# Altium footprint library WR-TBL_Pluggable Connector_5.00mm.PcbLib: 148 footprints (part 8 of 10)
Each footprint in its own frame and in the unit in brackets; x right, y up, seen from the top. Pads: shape width x height; smd on the part's side, far side on the other; paste and mask are expansions set on the pad; w line width, h text height; cw(c..) or ccw(c..) is an arc to the next point about the centre after c.
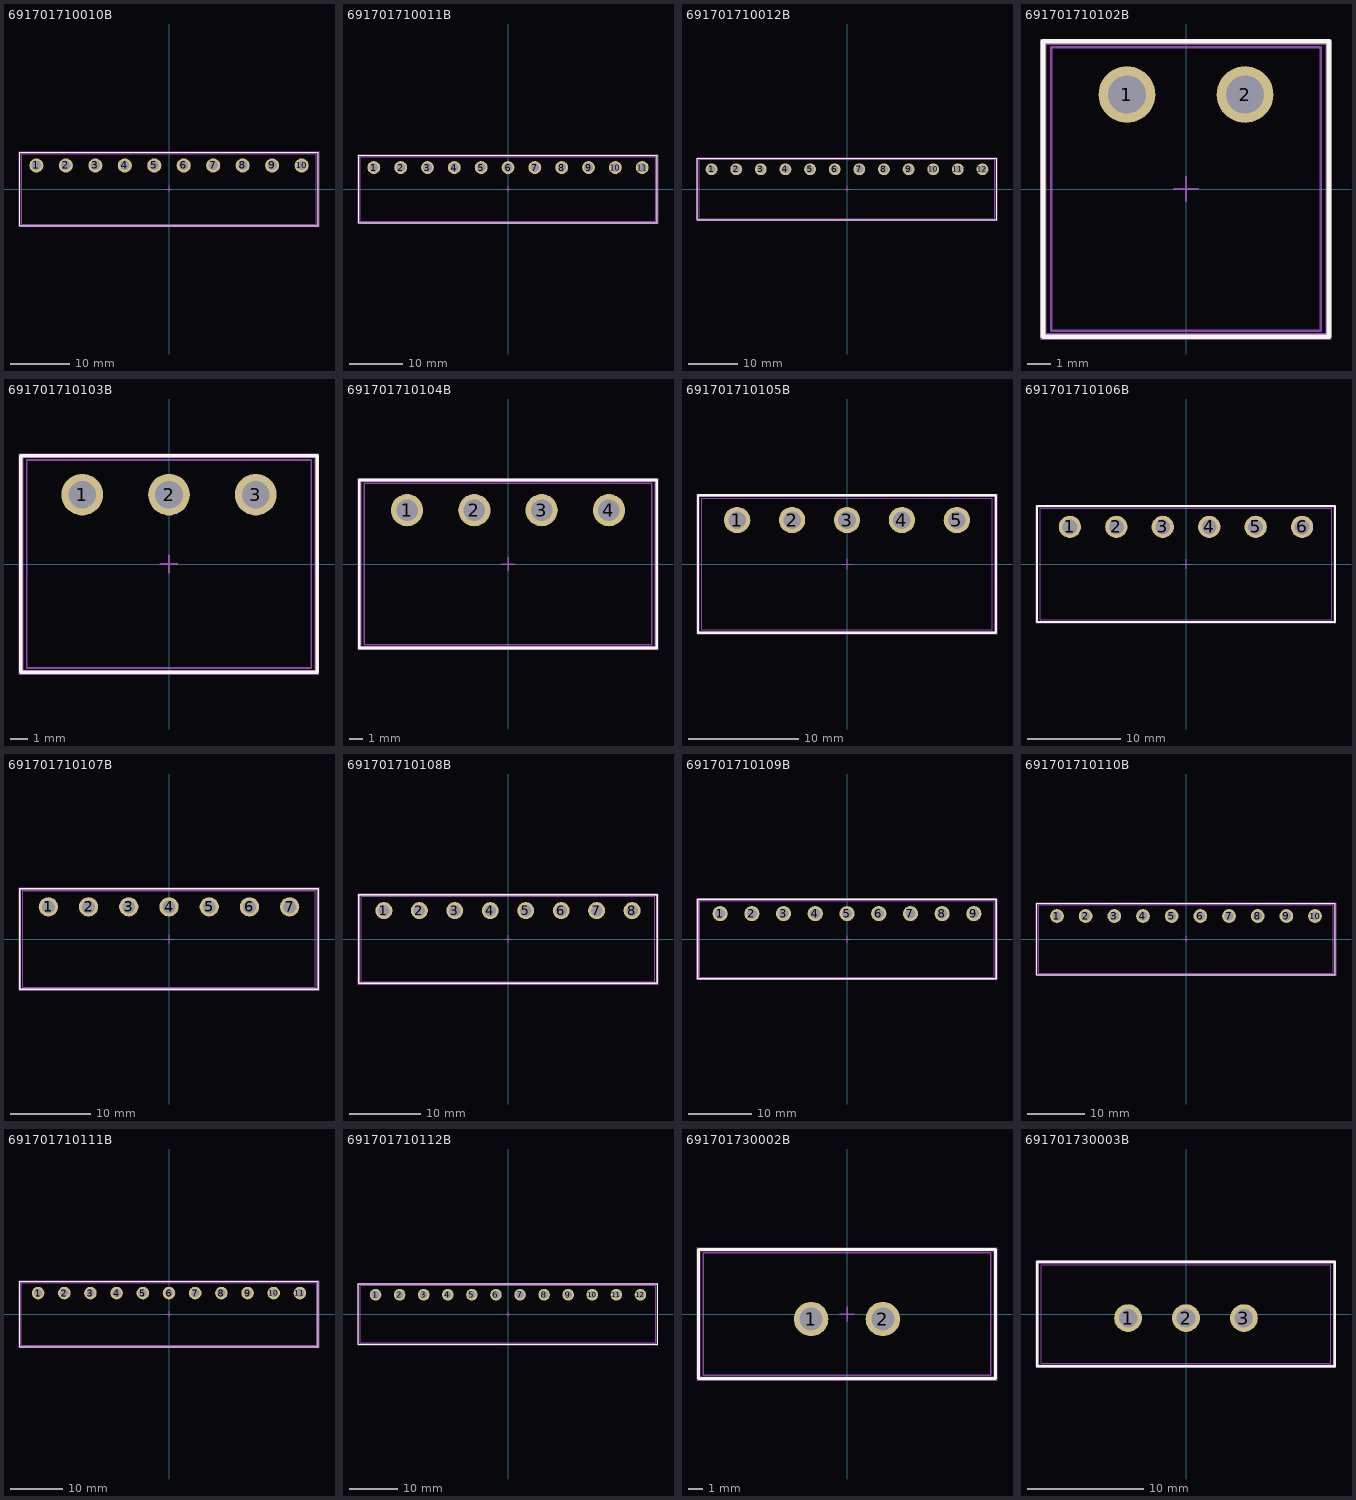
[diagram p7: the footprints below, top view; thin cyan lines are the x and y axes]

## 691701710010B [mm] "5.00 mm Open Horizontal PCB Header THR type, 10p"
height 8.5
pads (10):
  round 2.4 hole 1.6: 1(-22.5,4) 2(-17.5,4) 3(-12.5,4) 4(-7.5,4) 5(-2.5,4) 6(2.5,4) 7(7.5,4) 8(12.5,4) 9(17.5,4) 10(22.5,4)
Top Overlay:
  lines w0.2: -25.35,-6.25 25.35,-6.25 25.35,6.25 -25.35,6.25 -25.35,-6.25
Top Paste:
  region: 0.5,5.85 4.5,5.85 4.5,2.15 0.5,2.15
  region: -9.5,5.85 -5.5,5.85 -5.5,2.15 -9.5,2.15
  region: -14.5,5.85 -10.5,5.85 -10.5,2.15 -14.5,2.15
  region: -19.5,5.85 -15.5,5.85 -15.5,2.15 -19.5,2.15
  region: -24.5,5.85 -20.5,5.85 -20.5,2.15 -24.5,2.15
  region: -4.5,5.85 -0.5,5.85 -0.5,2.15 -4.5,2.15
  region: 5.5,5.85 9.5,5.85 9.5,2.15 5.5,2.15
  region: 10.5,5.85 14.5,5.85 14.5,2.15 10.5,2.15
  region: 15.5,5.85 19.5,5.85 19.5,2.15 15.5,2.15
  region: 20.5,5.85 24.5,5.85 24.5,2.15 20.5,2.15
Assembly Notes:
  text "Stencil thickness : 120 μm" at -5.156,-7.051 h1
Top Assembly:
  lines w0.1: -25.25,-6.15 -25.25,6.15 25.25,6.15 25.25,-6.15 -25.25,-6.15
Top Designator:
  text ".Designator" at -3.647,-0.357 h1
Top 3D Body:
  lines w0.1: -25,-6 -25,6 25,6 25,-6 -25,-6
Top Courtyard:
  lines w0.05: -25.45,-6.35 -25.45,6.35 25.45,6.35 25.45,-6.35 -25.45,-6.35
Top Component Center:
  lines w0.1: -0.5,0 0.5,0 ; 0,-0.5 0,0.5
3D body "691701710010B.stp": height 8.55, standoff -2.55, extent -25,-6 25,6

## 691701710011B [mm] "5.00 mm Open Horizontal PCB Header THR type, 11p"
height 8.5
pads (11):
  round 2.4 hole 1.6: 1(-25,4) 2(-20,4) 3(-15,4) 4(-10,4) 5(-5,4) 6(0,4) 7(5,4) 8(10,4) 9(15,4) 10(20,4) 11(25,4)
Top Overlay:
  lines w0.2: -27.85,-6.25 27.85,-6.25 27.85,6.25 -27.85,6.25 -27.85,-6.25
Top Paste:
  region: -2,5.85 2,5.85 2,2.15 -2,2.15
  region: -12,5.85 -8,5.85 -8,2.15 -12,2.15
  region: -17,5.85 -13,5.85 -13,2.15 -17,2.15
  region: -22,5.85 -18,5.85 -18,2.15 -22,2.15
  region: -27,5.85 -23,5.85 -23,2.15 -27,2.15
  region: -7,5.85 -3,5.85 -3,2.15 -7,2.15
  region: 3,5.85 7,5.85 7,2.15 3,2.15
  region: 8,5.85 12,5.85 12,2.15 8,2.15
  region: 13,5.85 17,5.85 17,2.15 13,2.15
  region: 18,5.85 22,5.85 22,2.15 18,2.15
  region: 23,5.85 27,5.85 27,2.15 23,2.15
Assembly Notes:
  text "Stencil thickness : 120 μm" at -5.156,-7.051 h1
Top Assembly:
  lines w0.1: -27.75,-6.15 -27.75,6.15 27.75,6.15 27.75,-6.15 -27.75,-6.15
Top Designator:
  text ".Designator" at -3.647,-0.357 h1
Top 3D Body:
  lines w0.1: -27.5,-6 -27.5,6 27.5,6 27.5,-6 -27.5,-6
Top Courtyard:
  lines w0.05: -27.95,-6.35 -27.95,6.35 27.95,6.35 27.95,-6.35 -27.95,-6.35
Top Component Center:
  lines w0.1: -0.5,0 0.5,0 ; 0,-0.5 0,0.5
3D body "691701710011B.stp": height 8.55, standoff -2.55, extent -27.5,-6 27.5,6

## 691701710012B [mm] "5.00 mm Open Horizontal PCB Header THR type, 12p"
height 8.5
pads (12):
  round 2.4 hole 1.6: 1(-27.5,4) 2(-22.5,4) 3(-17.5,4) 4(-12.5,4) 5(-7.5,4) 6(-2.5,4) 7(2.5,4) 8(7.5,4) 9(12.5,4) 10(17.5,4) 11(22.5,4) 12(27.5,4)
Top Overlay:
  lines w0.2: -30.35,-6.25 30.35,-6.25 30.35,6.25 -30.35,6.25 -30.35,-6.25
Top Paste:
  region: -4.5,5.85 -0.5,5.85 -0.5,2.15 -4.5,2.15
  region: -14.5,5.85 -10.5,5.85 -10.5,2.15 -14.5,2.15
  region: -19.5,5.85 -15.5,5.85 -15.5,2.15 -19.5,2.15
  region: -24.5,5.85 -20.5,5.85 -20.5,2.15 -24.5,2.15
  region: -29.5,5.85 -25.5,5.85 -25.5,2.15 -29.5,2.15
  region: -9.5,5.85 -5.5,5.85 -5.5,2.15 -9.5,2.15
  region: 0.5,5.85 4.5,5.85 4.5,2.15 0.5,2.15
  region: 5.5,5.85 9.5,5.85 9.5,2.15 5.5,2.15
  region: 10.5,5.85 14.5,5.85 14.5,2.15 10.5,2.15
  region: 15.5,5.85 19.5,5.85 19.5,2.15 15.5,2.15
  region: 20.5,5.85 24.5,5.85 24.5,2.15 20.5,2.15
  region: 25.5,5.85 29.5,5.85 29.5,2.15 25.5,2.15
Assembly Notes:
  text "Stencil thickness : 120 μm" at -5.156,-7.051 h1
Top Assembly:
  lines w0.1: -30.25,-6.15 -30.25,6.15 30.25,6.15 30.25,-6.15 -30.25,-6.15
Top Designator:
  text ".Designator" at -3.647,-0.357 h1
Top 3D Body:
  lines w0.1: -30,-6 -30,6 30,6 30,-6 -30,-6
Top Courtyard:
  lines w0.05: -30.45,-6.35 -30.45,6.35 30.45,6.35 30.45,-6.35 -30.45,-6.35
Top Component Center:
  lines w0.1: -0.5,0 0.5,0 ; 0,-0.5 0,0.5
3D body "691701710012B.stp": height 8.55, standoff -2.55, extent -30,-6 30,6

## 691701710102B [mm] "5.00 mm Closed Horinzontal PCB Header THR type, 02p"
height 8.5
pads (2):
  round 2.4 hole 1.6: 1(-2.5,4) 2(2.5,4)
Top Overlay:
  lines w0.2: -6.05,-6.25 -6.05,6.25 6.05,6.25 6.05,-6.25 -6.05,-6.25
Top Paste:
  region: 0.5,5.85 4.5,5.85 4.5,2.15 0.5,2.15
  region: -4.5,5.85 -0.5,5.85 -0.5,2.15 -4.5,2.15
Assembly Notes:
  text "Stencil thickness : 120 μm" at -5.156,-7.051 h1
Top Assembly:
  lines w0.1: -5.95,-6.15 -5.95,6.15 5.95,6.15 5.95,-6.15 -5.95,-6.15
Top Designator:
  text ".Designator" at -3.647,-0.357 h1
Top 3D Body:
  lines w0.1: -5.7,-6 -5.7,6 5.7,6 5.7,-6 -5.7,-6
Top Courtyard:
  lines w0.05: -6.15,-6.35 6.15,-6.35 6.15,6.35 -6.15,6.35 -6.15,-6.35
Top Component Center:
  lines w0.1: -0.5,0 0.5,0 ; 0,-0.5 0,0.5
3D body "691701710102B.stp": height 8.55, standoff -2.55, extent -5.7,-6 5.7,6

## 691701710103B [mm] "5.00 mm Closed Horinzontal PCB Header THR type, 03p"
height 8.5
pads (3):
  round 2.4 hole 1.6: 1(-5,4) 2(0,4) 3(5,4)
Top Overlay:
  lines w0.2: -8.55,-6.25 8.55,-6.25 8.55,6.25 -8.55,6.25 -8.55,-6.25
Top Paste:
  region: 3,5.85 7,5.85 7,2.15 3,2.15
  region: -2,5.85 2,5.85 2,2.15 -2,2.15
  region: -7,5.85 -3,5.85 -3,2.15 -7,2.15
Assembly Notes:
  text "Stencil thickness : 120 μm" at -5.156,-7.051 h1
Top Assembly:
  lines w0.1: -8.45,-6.15 8.45,-6.15 8.45,6.15 -8.45,6.15 -8.45,-6.15
Top Designator:
  text ".Designator" at -3.647,-0.357 h1
Top 3D Body:
  lines w0.1: -8.2,-6 8.2,-6 8.2,6 -8.2,6 -8.2,-6
Top Courtyard:
  lines w0.05: -8.65,-6.35 -8.65,6.35 8.65,6.35 8.65,-6.35 -8.65,-6.35
Top Component Center:
  lines w0.1: -0.5,0 0.5,0 ; 0,-0.5 0,0.5
3D body "691701710103B.stp": height 8.55, standoff -2.55, extent -8.2,-6 8.2,6

## 691701710104B [mm] "5.00 mm Closed Horinzontal PCB Header THR type, 04p"
height 8.5
pads (4):
  round 2.4 hole 1.6: 1(-7.5,4) 2(-2.5,4) 3(2.5,4) 4(7.5,4)
Top Overlay:
  lines w0.2: -11.05,-6.25 11.05,-6.25 11.05,6.25 -11.05,6.25 -11.05,-6.25
Top Paste:
  region: 5.5,5.85 9.5,5.85 9.5,2.15 5.5,2.15
  region: 0.5,5.85 4.5,5.85 4.5,2.15 0.5,2.15
  region: -4.5,5.85 -0.5,5.85 -0.5,2.15 -4.5,2.15
  region: -9.5,5.85 -5.5,5.85 -5.5,2.15 -9.5,2.15
Assembly Notes:
  text "Stencil thickness : 120 μm" at -5.156,-7.051 h1
Top Assembly:
  lines w0.1: -10.95,-6.15 10.95,-6.15 10.95,6.15 -10.95,6.15 -10.95,-6.15
Top Designator:
  text ".Designator" at -3.647,-0.357 h1
Top 3D Body:
  lines w0.1: -10.7,-6 10.7,-6 10.7,6 -10.7,6 -10.7,-6
Top Courtyard:
  lines w0.05: -11.15,-6.35 -11.15,6.35 11.15,6.35 11.15,-6.35 -11.15,-6.35
Top Component Center:
  lines w0.1: -0.5,0 0.5,0 ; 0,-0.5 0,0.5
3D body "691701710104B.stp": height 8.55, standoff -2.55, extent -10.7,-6 10.7,6

## 691701710105B [mm] "5.00 mm Closed Horinzontal PCB Header THR type, 05p"
height 8.5
pads (5):
  round 2.4 hole 1.6: 1(-10,4) 2(-5,4) 3(0,4) 4(5,4) 5(10,4)
Top Overlay:
  lines w0.2: -13.55,-6.25 13.55,-6.25 13.55,6.25 -13.55,6.25 -13.55,-6.25
Top Paste:
  region: 8,5.85 12,5.85 12,2.15 8,2.15
  region: 3,5.85 7,5.85 7,2.15 3,2.15
  region: -2,5.85 2,5.85 2,2.15 -2,2.15
  region: -7,5.85 -3,5.85 -3,2.15 -7,2.15
  region: -12,5.85 -8,5.85 -8,2.15 -12,2.15
Assembly Notes:
  text "Stencil thickness : 120 μm" at -5.156,-7.051 h1
Top Assembly:
  lines w0.1: -13.45,-6.15 13.45,-6.15 13.45,6.15 -13.45,6.15 -13.45,-6.15
Top Designator:
  text ".Designator" at -3.647,-0.357 h1
Top 3D Body:
  lines w0.1: -13.2,-6 13.2,-6 13.2,6 -13.2,6 -13.2,-6
Top Courtyard:
  lines w0.05: -13.65,-6.35 -13.65,6.35 13.65,6.35 13.65,-6.35 -13.65,-6.35
Top Component Center:
  lines w0.1: -0.5,0 0.5,0 ; 0,-0.5 0,0.5
3D body "691701710105B.stp": height 8.55, standoff -2.55, extent -13.2,-6 13.2,6

## 691701710106B [mm] "5.00 mm Closed Horinzontal PCB Header THR type, 06p"
height 8.5
pads (6):
  round 2.4 hole 1.6: 1(-12.5,4) 2(-7.5,4) 3(-2.5,4) 4(2.5,4) 5(7.5,4) 6(12.5,4)
Top Overlay:
  lines w0.2: -16.05,-6.25 16.05,-6.25 16.05,6.25 -16.05,6.25 -16.05,-6.25
Top Paste:
  region: 10.5,5.85 14.5,5.85 14.5,2.15 10.5,2.15
  region: -14.5,5.85 -10.5,5.85 -10.5,2.15 -14.5,2.15
  region: -9.5,5.85 -5.5,5.85 -5.5,2.15 -9.5,2.15
  region: -4.5,5.85 -0.5,5.85 -0.5,2.15 -4.5,2.15
  region: 0.5,5.85 4.5,5.85 4.5,2.15 0.5,2.15
  region: 5.5,5.85 9.5,5.85 9.5,2.15 5.5,2.15
Assembly Notes:
  text "Stencil thickness : 120 μm" at -5.156,-7.051 h1
Top Assembly:
  lines w0.1: -15.95,-6.15 15.95,-6.15 15.95,6.15 -15.95,6.15 -15.95,-6.15
Top Designator:
  text ".Designator" at -3.647,-0.357 h1
Top 3D Body:
  lines w0.1: -15.7,-6 15.7,-6 15.7,6 -15.7,6 -15.7,-6
Top Courtyard:
  lines w0.05: -16.15,-6.35 -16.15,6.35 16.15,6.35 16.15,-6.35 -16.15,-6.35
Top Component Center:
  lines w0.1: -0.5,0 0.5,0 ; 0,-0.5 0,0.5
3D body "691701710106B.stp": height 8.55, standoff -2.55, extent -15.7,-6 15.7,6

## 691701710107B [mm] "5.00 mm Closed Horinzontal PCB Header THR type, 07p"
height 8.5
pads (7):
  round 2.4 hole 1.6: 1(-15,4) 2(-10,4) 3(-5,4) 4(0,4) 5(5,4) 6(10,4) 7(15,4)
Top Overlay:
  lines w0.2: -18.55,-6.25 18.55,-6.25 18.55,6.25 -18.55,6.25 -18.55,-6.25
Top Paste:
  region: 3,5.85 7,5.85 7,2.15 3,2.15
  region: -2,5.85 2,5.85 2,2.15 -2,2.15
  region: -7,5.85 -3,5.85 -3,2.15 -7,2.15
  region: -12,5.85 -8,5.85 -8,2.15 -12,2.15
  region: -17,5.85 -13,5.85 -13,2.15 -17,2.15
  region: 8,5.85 12,5.85 12,2.15 8,2.15
  region: 13,5.85 17,5.85 17,2.15 13,2.15
Assembly Notes:
  text "Stencil thickness : 120 μm" at -5.156,-7.051 h1
Top Assembly:
  lines w0.1: -18.45,-6.15 18.45,-6.15 18.45,6.15 -18.45,6.15 -18.45,-6.15
Top Designator:
  text ".Designator" at -3.647,-0.357 h1
Top 3D Body:
  lines w0.1: -18.2,-6 18.2,-6 18.2,6 -18.2,6 -18.2,-6
Top Courtyard:
  lines w0.05: -18.65,-6.35 -18.65,6.35 18.65,6.35 18.65,-6.35 -18.65,-6.35
Top Component Center:
  lines w0.1: -0.5,0 0.5,0 ; 0,-0.5 0,0.5
3D body "691701710107B.stp": height 8.55, standoff -2.55, extent -18.2,-6 18.2,6

## 691701710108B [mm] "5.00 mm Closed Horinzontal PCB Header THR type, 08p"
height 8.5
pads (8):
  round 2.4 hole 1.6: 1(-17.5,4) 2(-12.5,4) 3(-7.5,4) 4(-2.5,4) 5(2.5,4) 6(7.5,4) 7(12.5,4) 8(17.5,4)
Top Overlay:
  lines w0.2: -21.05,-6.25 21.05,-6.25 21.05,6.25 -21.05,6.25 -21.05,-6.25
Top Paste:
  region: 15.5,5.85 19.5,5.85 19.5,2.15 15.5,2.15
  region: 10.5,5.85 14.5,5.85 14.5,2.15 10.5,2.15
  region: 5.5,5.85 9.5,5.85 9.5,2.15 5.5,2.15
  region: -19.5,5.85 -15.5,5.85 -15.5,2.15 -19.5,2.15
  region: -14.5,5.85 -10.5,5.85 -10.5,2.15 -14.5,2.15
  region: -9.5,5.85 -5.5,5.85 -5.5,2.15 -9.5,2.15
  region: -4.5,5.85 -0.5,5.85 -0.5,2.15 -4.5,2.15
  region: 0.5,5.85 4.5,5.85 4.5,2.15 0.5,2.15
Assembly Notes:
  text "Stencil thickness : 120 μm" at -5.156,-7.051 h1
Top Assembly:
  lines w0.1: -20.95,-6.15 20.95,-6.15 20.95,6.15 -20.95,6.15 -20.95,-6.15
Top Designator:
  text ".Designator" at -3.647,-0.357 h1
Top 3D Body:
  lines w0.1: -20.7,-6 20.7,-6 20.7,6 -20.7,6 -20.7,-6
Top Courtyard:
  lines w0.05: -21.15,-6.35 -21.15,6.35 21.15,6.35 21.15,-6.35 -21.15,-6.35
Top Component Center:
  lines w0.1: -0.5,0 0.5,0 ; 0,-0.5 0,0.5
3D body "691701710108B.stp": height 8.55, standoff -2.55, extent -20.7,-6 20.7,6

## 691701710109B [mm] "5.00 mm Closed Horinzontal PCB Header THR type, 09p"
height 8.5
pads (9):
  round 2.4 hole 1.6: 1(-20,4) 2(-15,4) 3(-10,4) 4(-5,4) 5(0,4) 6(5,4) 7(10,4) 8(15,4) 9(20,4)
Top Overlay:
  lines w0.2: -23.55,-6.25 23.55,-6.25 23.55,6.25 -23.55,6.25 -23.55,-6.25
Top Paste:
  region: 18,5.85 22,5.85 22,2.15 18,2.15
  region: 13,5.85 17,5.85 17,2.15 13,2.15
  region: 8,5.85 12,5.85 12,2.15 8,2.15
  region: 3,5.85 7,5.85 7,2.15 3,2.15
  region: -22,5.85 -18,5.85 -18,2.15 -22,2.15
  region: -17,5.85 -13,5.85 -13,2.15 -17,2.15
  region: -12,5.85 -8,5.85 -8,2.15 -12,2.15
  region: -7,5.85 -3,5.85 -3,2.15 -7,2.15
  region: -2,5.85 2,5.85 2,2.15 -2,2.15
Assembly Notes:
  text "Stencil thickness : 120 μm" at -5.156,-7.051 h1
Top Assembly:
  lines w0.1: -23.45,-6.15 23.45,-6.15 23.45,6.15 -23.45,6.15 -23.45,-6.15
Top Designator:
  text ".Designator" at -3.647,-0.357 h1
Top 3D Body:
  lines w0.1: -23.2,-6 23.2,-6 23.2,6 -23.2,6 -23.2,-6
Top Courtyard:
  lines w0.05: -23.65,-6.35 -23.65,6.35 23.65,6.35 23.65,-6.35 -23.65,-6.35
Top Component Center:
  lines w0.1: -0.5,0 0.5,0 ; 0,-0.5 0,0.5
3D body "691701710109B.stp": height 8.55, standoff -2.55, extent -23.2,-6 23.2,6

## 691701710110B [mm] "5.00 mm Closed Horinzontal PCB Header THR type, 10p"
height 8.5
pads (10):
  round 2.4 hole 1.6: 1(-22.5,4) 2(-17.5,4) 3(-12.5,4) 4(-7.5,4) 5(-2.5,4) 6(2.5,4) 7(7.5,4) 8(12.5,4) 9(17.5,4) 10(22.5,4)
Top Overlay:
  lines w0.2: -26.05,-6.25 26.05,-6.25 26.05,6.25 -26.05,6.25 -26.05,-6.25
Top Paste:
  region: -4.5,5.85 -0.5,5.85 -0.5,2.15 -4.5,2.15
  region: -9.5,5.85 -5.5,5.85 -5.5,2.15 -9.5,2.15
  region: -14.5,5.85 -10.5,5.85 -10.5,2.15 -14.5,2.15
  region: -19.5,5.85 -15.5,5.85 -15.5,2.15 -19.5,2.15
  region: -24.5,5.85 -20.5,5.85 -20.5,2.15 -24.5,2.15
  region: 0.5,5.85 4.5,5.85 4.5,2.15 0.5,2.15
  region: 5.5,5.85 9.5,5.85 9.5,2.15 5.5,2.15
  region: 10.5,5.85 14.5,5.85 14.5,2.15 10.5,2.15
  region: 15.5,5.85 19.5,5.85 19.5,2.15 15.5,2.15
  region: 20.5,5.85 24.5,5.85 24.5,2.15 20.5,2.15
Assembly Notes:
  text "Stencil thickness : 120 μm" at -5.156,-7.051 h1
Top Assembly:
  lines w0.1: -25.95,-6.15 25.95,-6.15 25.95,6.15 -25.95,6.15 -25.95,-6.15
Top Designator:
  text ".Designator" at -3.647,-0.357 h1
Top 3D Body:
  lines w0.1: -25.7,-6 25.7,-6 25.7,6 -25.7,6 -25.7,-6
Top Courtyard:
  lines w0.05: -26.15,-6.35 -26.15,6.35 26.15,6.35 26.15,-6.35 -26.15,-6.35
Top Component Center:
  lines w0.1: -0.5,0 0.5,0 ; 0,-0.5 0,0.5
3D body "691701710110B.stp": height 8.55, standoff -2.55, extent -25.7,-6 25.7,6

## 691701710111B [mm] "5.00 mm Closed Horinzontal PCB Header THR type, 11p"
height 8.5
pads (11):
  round 2.4 hole 1.6: 1(-25,4) 2(-20,4) 3(-15,4) 4(-10,4) 5(-5,4) 6(0,4) 7(5,4) 8(10,4) 9(15,4) 10(20,4) 11(25,4)
Top Overlay:
  lines w0.2: -28.55,-6.25 28.55,-6.25 28.55,6.25 -28.55,6.25 -28.55,-6.25
Top Paste:
  region: 18,5.85 22,5.85 22,2.15 18,2.15
  region: 13,5.85 17,5.85 17,2.15 13,2.15
  region: 8,5.85 12,5.85 12,2.15 8,2.15
  region: 3,5.85 7,5.85 7,2.15 3,2.15
  region: -2,5.85 2,5.85 2,2.15 -2,2.15
  region: -27,5.85 -23,5.85 -23,2.15 -27,2.15
  region: -22,5.85 -18,5.85 -18,2.15 -22,2.15
  region: -17,5.85 -13,5.85 -13,2.15 -17,2.15
  region: -12,5.85 -8,5.85 -8,2.15 -12,2.15
  region: -7,5.85 -3,5.85 -3,2.15 -7,2.15
  region: 23,5.85 27,5.85 27,2.15 23,2.15
Assembly Notes:
  text "Stencil thickness : 120 μm" at -5.156,-7.051 h1
Top Assembly:
  lines w0.1: -28.45,-6.15 28.45,-6.15 28.45,6.15 -28.45,6.15 -28.45,-6.15
Top Designator:
  text ".Designator" at -3.647,-0.357 h1
Top 3D Body:
  lines w0.1: -28.2,-6 28.2,-6 28.2,6 -28.2,6 -28.2,-6
Top Courtyard:
  lines w0.05: -28.65,-6.35 -28.65,6.35 28.65,6.35 28.65,-6.35 -28.65,-6.35
Top Component Center:
  lines w0.1: -0.5,0 0.5,0 ; 0,-0.5 0,0.5
3D body "691701710111B.stp": height 8.55, standoff -2.55, extent -28.2,-6 28.2,6

## 691701710112B [mm] "5.00 mm Closed Horinzontal PCB Header THR type, 12p"
height 8.5
pads (12):
  round 2.4 hole 1.6: 1(-27.5,4) 2(-22.5,4) 3(-17.5,4) 4(-12.5,4) 5(-7.5,4) 6(-2.5,4) 7(2.5,4) 8(7.5,4) 9(12.5,4) 10(17.5,4) 11(22.5,4) 12(27.5,4)
Top Overlay:
  lines w0.2: -31.05,-6.25 -31.05,6.25 31.05,6.25 31.05,-6.25 -31.05,-6.25
Top Paste:
  region: 25.5,5.85 29.5,5.85 29.5,2.15 25.5,2.15
  region: 20.5,5.85 24.5,5.85 24.5,2.15 20.5,2.15
  region: -9.5,5.85 -5.5,5.85 -5.5,2.15 -9.5,2.15
  region: -14.5,5.85 -10.5,5.85 -10.5,2.15 -14.5,2.15
  region: -19.5,5.85 -15.5,5.85 -15.5,2.15 -19.5,2.15
  region: -24.5,5.85 -20.5,5.85 -20.5,2.15 -24.5,2.15
  region: -29.5,5.85 -25.5,5.85 -25.5,2.15 -29.5,2.15
  region: -4.5,5.85 -0.5,5.85 -0.5,2.15 -4.5,2.15
  region: 0.5,5.85 4.5,5.85 4.5,2.15 0.5,2.15
  region: 5.5,5.85 9.5,5.85 9.5,2.15 5.5,2.15
  region: 10.5,5.85 14.5,5.85 14.5,2.15 10.5,2.15
  region: 15.5,5.85 19.5,5.85 19.5,2.15 15.5,2.15
Assembly Notes:
  text "Stencil thickness : 120 μm" at -5.156,-7.051 h1
Top Assembly:
  lines w0.1: -30.95,-6.15 -30.95,6.15 30.95,6.15 30.95,-6.15 -30.95,-6.15
Top Designator:
  text ".Designator" at -3.647,-0.357 h1
Top 3D Body:
  lines w0.1: -30.7,-6 -30.7,6 30.7,6 30.7,-6 -30.7,-6
Top Courtyard:
  lines w0.05: -31.15,-6.35 31.15,-6.35 31.15,6.35 -31.15,6.35 -31.15,-6.35
Top Component Center:
  lines w0.1: -0.5,0 0.5,0 ; 0,-0.5 0,0.5
3D body "691701710112B.stp": height 8.55, standoff -2.55, extent -30.7,-6 30.7,6

## 691701730002B [mm] "5.00 mm Closed Vertical PCB Header THR Type with Flanges, 02p"
height 12
pads (2):
  round 2.4 hole 1.6: 1(-2.5,-0.35) 2(2.5,-0.35)
Top Overlay:
  lines w0.2: -10.35,-4.5 -10.35,4.5 10.35,4.5 10.35,-4.5 -10.35,-4.5
Top Paste:
  region: 0.5,1.5 4.5,1.5 4.5,-2.2 0.5,-2.2
  region: -4.5,1.5 -0.5,1.5 -0.5,-2.2 -4.5,-2.2
Assembly Notes:
  text "Stencil thickness : 120 μm" at -5.156,-5.318 h1
Top Assembly:
  lines w0.1: -10.25,-4.4 -10.25,4.4 10.25,4.4 10.25,-4.4 -10.25,-4.4
Top Designator:
  text ".Designator" at -3.647,-0.357 h1
Top 3D Body:
  lines w0.1: -10,-4.25 10,-4.25 10,4.25 -10,4.25 -10,-4.25
Top Courtyard:
  lines w0.05: -10.45,-4.6 10.45,-4.6 10.45,4.6 -10.45,4.6 -10.45,-4.6
Top Component Center:
  lines w0.1: -0.5,0 0.5,0 ; 0,-0.5 0,0.5
3D body "691701730002B.stp": height 12.06, standoff -2.55, extent -10,-4.25 10,4.25

## 691701730003B [mm] "5.00 mm Closed Vertical PCB Header THR Type with Flanges, 03p"
height 12
pads (3):
  round 2.4 hole 1.6: 1(-5,-0.35) 2(0,-0.35) 3(5,-0.35)
Top Overlay:
  lines w0.2: -12.85,-4.5 -12.85,4.5 12.85,4.5 12.85,-4.5 -12.85,-4.5
Top Paste:
  region: -7,1.5 -3,1.5 -3,-2.2 -7,-2.2
  region: -2,1.5 2,1.5 2,-2.2 -2,-2.2
  region: 3,1.5 7,1.5 7,-2.2 3,-2.2
Assembly Notes:
  text "Stencil thickness : 120 μm" at -5.156,-5.318 h1
Top Assembly:
  lines w0.1: -12.75,-4.4 -12.75,4.4 12.75,4.4 12.75,-4.4 -12.75,-4.4
Top Designator:
  text ".Designator" at -3.647,-0.357 h1
Top 3D Body:
  lines w0.1: -12.5,-4.25 12.5,-4.25 12.5,4.25 -12.5,4.25 -12.5,-4.25
Top Courtyard:
  lines w0.05: -12.95,-4.6 12.95,-4.6 12.95,4.6 -12.95,4.6 -12.95,-4.6
Top Component Center:
  lines w0.1: -0.5,0 0.5,0 ; 0,-0.5 0,0.5
3D body "691701730003B.stp": height 12.06, standoff -2.55, extent -12.5,-4.25 12.5,4.25